# EAGLE library part LTC6802-2 (library LTC6802)
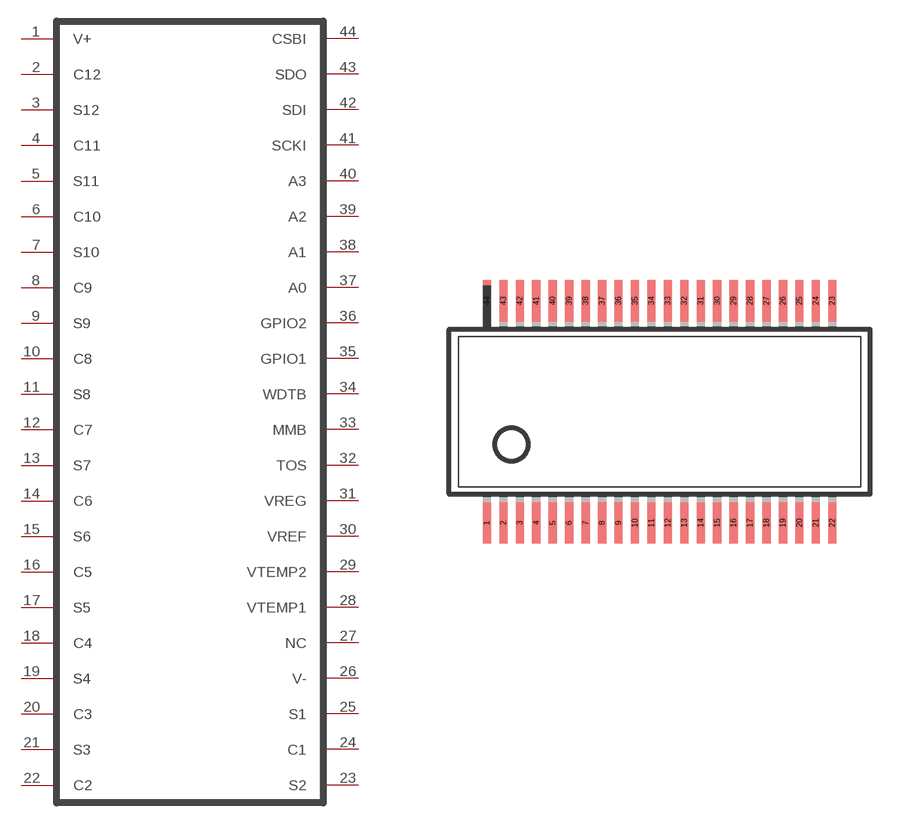
[diagram p0: symbol with the pads of SSOP44DL; footprint SSOP44DL]

Designator prefix -

## LTC6802-2  [SSOP44DL]
1  V+
2  C12
3  S12
4  C11
5  S11
6  C10
7  S10
8  C9
9  S9
10  C8
11  S8
12  C7
13  S7
14  C6
15  S6
16  C5
17  S5
18  C4
19  S4
20  C3
21  S3
22  C2
23  S2
24  C1
25  S1
26  V-
27  NC
28  VTEMP1
29  VTEMP2
30  VREF
31  VREG
32  TOS
33  MMB
34  WDTB
35  GPIO1
36  GPIO2
37  A0
38  A1
39  A2
40  A3
41  SCKI
42  SDI
43  SDO
44  CSBI

## Footprint SSOP44DL (pad centres in mm)
smd 0.25 x 1.25: 1 1.1,0.435; 2 1.6,0.435; 3 2.1,0.435; 4 2.6,0.435; 5 3.1,0.435; 6 3.6,0.435; 7 4.1,0.435; 8 4.6,0.435; 9 5.1,0.435; 10 5.6,0.435; 11 6.1,0.435; 12 6.6,0.435; 13 7.1,0.435; 14 7.6,0.435; 15 8.1,0.435; 16 8.6,0.435; 17 9.1,0.435; 18 9.6,0.435; 19 10.1,0.435; 20 10.6,0.435; 21 11.1,0.435; 22 11.6,0.435; 23 11.6,7.185; 24 11.1,7.185; 25 10.6,7.185; 26 10.1,7.185; 27 9.6,7.185; 28 9.1,7.185; 29 8.6,7.185; 30 8.1,7.185; 31 7.6,7.185; 32 7.1,7.185; 33 6.6,7.185; 34 6.1,7.185; 35 5.6,7.185; 36 5.1,7.185; 37 4.6,7.185; 38 4.1,7.185; 39 3.6,7.185; 40 3.1,7.185; 41 2.6,7.185; 42 2.1,7.185; 43 1.6,7.185; 44 1.1,7.185